# Altium schematic symbol library USB_F.SchLib: 1 symbol
Pins are listed as number, name and electrical type; pins without a type are passive.

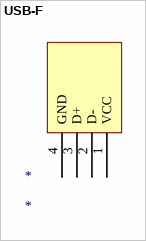
[diagram p0: symbol USB-F]

## USB-F
designator *
footprint USB-F
pins: 1 VCC, 2 D-, 3 D+, 4 GND